# EAGLE library part LFXP3E_XXT100 (library lattice)
lfxp3e_tqfp100 edit this description Auto generated by make-symbol-device-package-bsdl.ulp Rev. 20 Source: lfxp3e_tqfp100.bsm
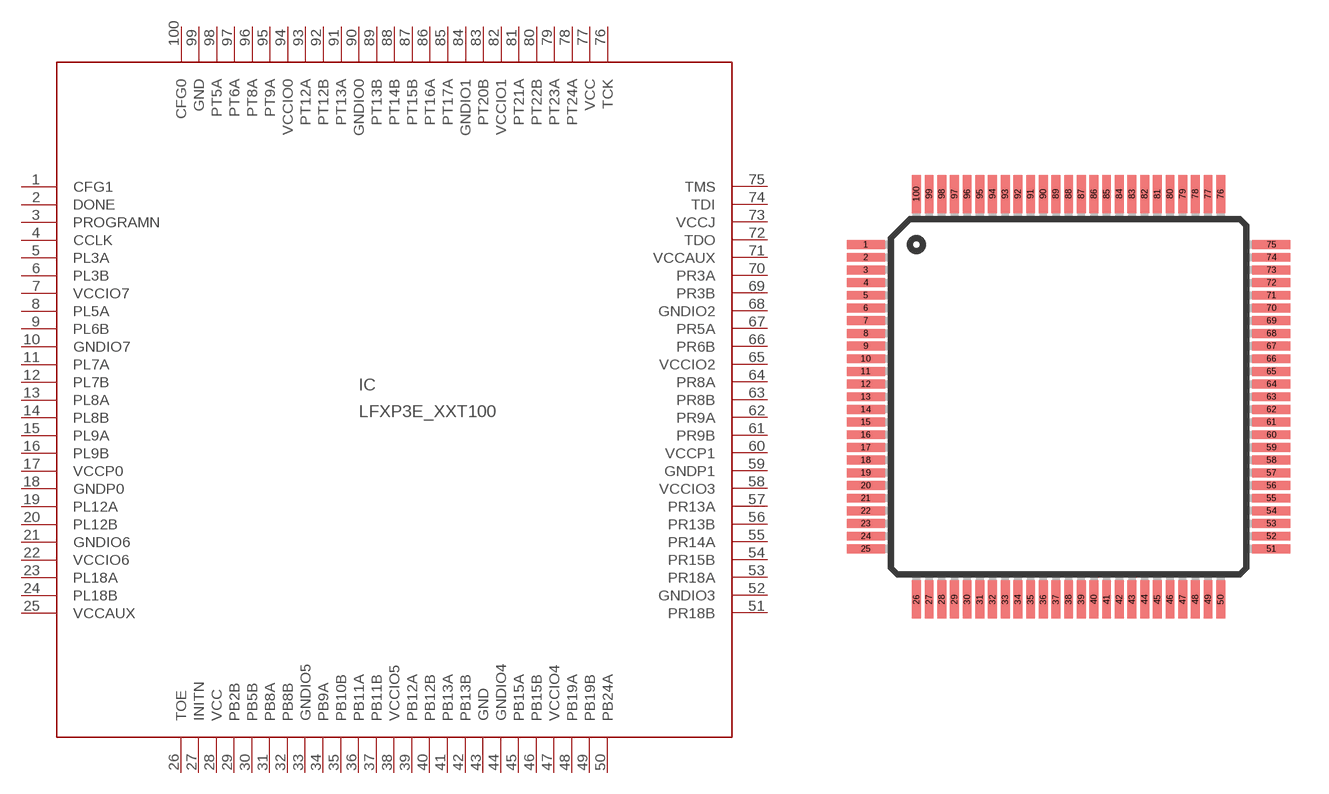
[diagram p32: symbol with the pads of TQFP100; footprint TQFP100]

Designator prefix IC

## LFXP3E_XXT100 (OC_FARNELL: unknown; OC_NEWARK: unknown)  [TQFP100]
1  CFG1  in
2  DONE
3  PROGRAMN  in
4  CCLK
5  PL3A
6  PL3B
7  VCCIO7  pwr
8  PL5A
9  PL6B
10  GNDIO7  pwr
11  PL7A
12  PL7B
13  PL8A
14  PL8B
15  PL9A
16  PL9B
17  VCCP0  pwr
18  GNDP0  pwr
19  PL12A
20  PL12B
21  GNDIO6  pwr
22  VCCIO6  pwr
23  PL18A
24  PL18B
25  VCCAUX  pwr
26  TOE  in
27  INITN
28  VCC  pwr
29  PB2B
30  PB5B
31  PB8A
32  PB8B
33  GNDIO5  pwr
34  PB9A
35  PB10B
36  PB11A
37  PB11B
38  VCCIO5  pwr
39  PB12A
40  PB12B
41  PB13A
42  PB13B
43  GND  pwr
44  GNDIO4  pwr
45  PB15A
46  PB15B
47  VCCIO4  pwr
48  PB19A
49  PB19B
50  PB24A
51  PR18B
52  GNDIO3  pwr
53  PR18A
54  PR15B
55  PR14A
56  PR13B
57  PR13A
58  VCCIO3  pwr
59  GNDP1  pwr
60  VCCP1  pwr
61  PR9B
62  PR9A
63  PR8B
64  PR8A
65  VCCIO2  pwr
66  PR6B
67  PR5A
68  GNDIO2  pwr
69  PR3B
70  PR3A
71  VCCAUX  pwr
72  TDO  out
73  VCCJ  pwr
74  TDI  in
75  TMS  in
76  TCK  in
77  VCC  pwr
78  PT24A
79  PT23A
80  PT22B
81  PT21A
82  VCCIO1  pwr
83  PT20B
84  GNDIO1  pwr
85  PT17A
86  PT16A
87  PT15B
88  PT14B
89  PT13B
90  GNDIO0  pwr
91  PT13A
92  PT12B
93  PT12A
94  VCCIO0  pwr
95  PT9A
96  PT8A
97  PT6A
98  PT5A
99  GND  pwr
100  CFG0  in

## Footprint TQFP100 (pad centres in mm)
Thin Quad Flat Package
smd 1.5 x 0.35: 1 -8,6; 2 -8,5.5; 3 -8,5; 4 -8,4.5; 5 -8,4; 6 -8,3.5; 7 -8,3; 8 -8,2.5; 9 -8,2; 10 -8,1.5; 11 -8,1; 12 -8,0.5; 13 -8,0; 14 -8,-0.5; 15 -8,-1; 16 -8,-1.5; 17 -8,-2; 18 -8,-2.5; 19 -8,-3; 20 -8,-3.5; 21 -8,-4; 22 -8,-4.5; 23 -8,-5; 24 -8,-5.5; 25 -8,-6; 51 8,-6; 52 8,-5.5; 53 8,-5; 54 8,-4.5; 55 8,-4; 56 8,-3.5; 57 8,-3; 58 8,-2.5; 59 8,-2; 60 8,-1.5; 61 8,-1; 62 8,-0.5; 63 8,0; 64 8,0.5; 65 8,1; 66 8,1.5; 67 8,2; 68 8,2.5; 69 8,3; 70 8,3.5; 71 8,4; 72 8,4.5; 73 8,5; 74 8,5.5; 75 8,6
smd 0.35 x 1.5: 26 -6,-8; 27 -5.5,-8; 28 -5,-8; 29 -4.5,-8; 30 -4,-8; 31 -3.5,-8; 32 -3,-8; 33 -2.5,-8; 34 -2,-8; 35 -1.5,-8; 36 -1,-8; 37 -0.5,-8; 38 0,-8; 39 0.5,-8; 40 1,-8; 41 1.5,-8; 42 2,-8; 43 2.5,-8; 44 3,-8; 45 3.5,-8; 46 4,-8; 47 4.5,-8; 48 5,-8; 49 5.5,-8; 50 6,-8; 76 6,8; 77 5.5,8; 78 5,8; 79 4.5,8; 80 4,8; 81 3.5,8; 82 3,8; 83 2.5,8; 84 2,8; 85 1.5,8; 86 1,8; 87 0.5,8; 88 0,8; 89 -0.5,8; 90 -1,8; 91 -1.5,8; 92 -2,8; 93 -2.5,8; 94 -3,8; 95 -3.5,8; 96 -4,8; 97 -4.5,8; 98 -5,8; 99 -5.5,8; 100 -6,8